# Altium footprint library PcbLib1.PcbLib: 3 footprints
Each footprint in its own frame and in the unit in brackets; x right, y up, seen from the top. Pads: shape width x height; smd on the part's side, far side on the other; paste and mask are expansions set on the pad; w line width, h text height; cw(c..) or ccw(c..) is an arc to the next point about the centre after c.
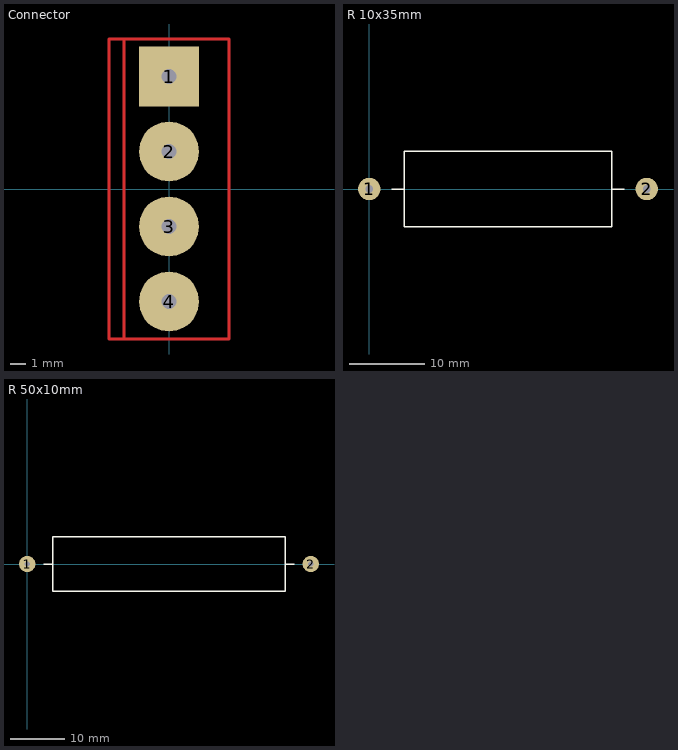
[diagram p0: the footprints below, top view; thin cyan lines are the x and y axes]

## Connector [mm]
pads (4):
  rect 4x4 hole 1: 1(0,7.5)
  round 4 hole 1: 2(0,2.5) 3(0,-2.5) 4(0,-7.5)
Top Layer:
  lines w0.2: -3,-10 -3,10 ; -4,-10 -4,10 4,10 4,-10 -4,-10

## R 10x35mm [mm]
pads (2):
  round 3 hole 1: 1(0,0) 2(37,0)
Top Overlay:
  lines w0.2: 3,0 4.675,0 ; 32.325,0 34,0 ; 4.675,0 4.675,5 32.325,5 32.325,-5 4.675,-5 4.675,0

## R 50x10mm [mm]
pads (2):
  round 3 hole 1: 1(0,0) 2(52,0)
Top Overlay:
  lines w0.254: 3,0 4.675,0 ; 47.325,0 49,0 ; 4.675,0 4.675,-5 47.325,-5 47.325,5 4.675,5 4.675,0